# Altium integrated library Butttons.IntLib: 10 symbols
Pins are listed as number, name and electrical type; pins without a type are passive.

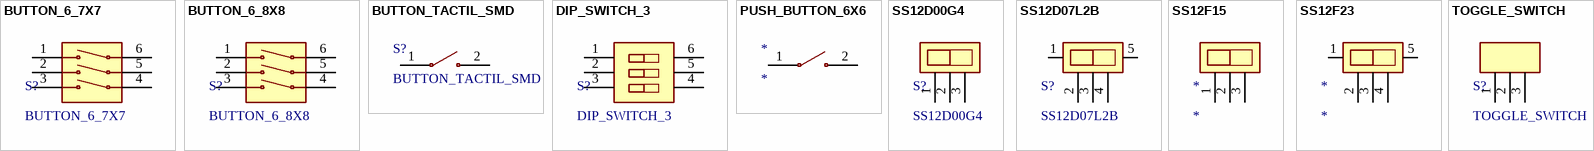
[diagram p0: symbols BUTTON_6_7X7 to TOGGLE_SWITCH]

## BUTTON_6_7X7
designator S?
footprint BUTTON_6_7X7
pins: 1, 2, 3, 4, 5, 6

## BUTTON_6_8X8
designator S?
footprint BUTTON_6_8x8
pins: 1, 2, 3, 4, 5, 6

## BUTTON_TACTIL_SMD
designator S?
footprint BUTTON_TACTIL_SMD
pins: 1, 2

## DIP_SWITCH_3
designator S?
footprint DIP_SWITCH_3
pins: 1, 2, 3, 4, 5, 6

## PUSH_BUTTON_6X6
designator *
footprint PUSH_BUTTON_6X6
pins: 1, 2

## SS12D00G4
designator S?
footprint SS12D00G4
pins: 1, 2, 3

## SS12D07L2B
designator S?
footprint SS12D07L2B
pins: 1, 2, 3, 4, 5

## SS12F15
designator *
footprint SS12F15
pins: 1, 2, 3

## SS12F23
designator *
footprint SS12F23
pins: 1, 2, 3, 4, 5

## TOGGLE_SWITCH
designator S?
footprint TOGGLE_SWITCH
pins: 1, 2, 3